# Altium integrated library ON Semi Logic Clock Clock Support.IntLib: 2 symbols
Pins are listed as number, name and electrical type; pins without a type are passive.

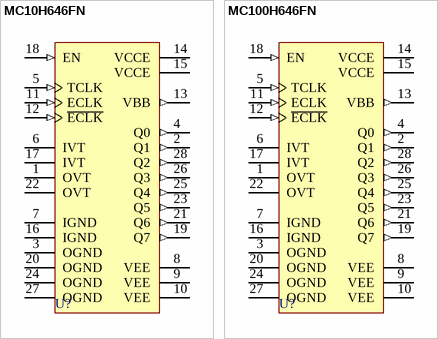
[diagram p0: symbols MC10H646FN to MC100H646FN]

## MC10H646FN
designator U?
PECL/TTL-TTL 1:8 Clock Distribution Chip; Published: 15-Apr-2002; LatestRevisionDate: 13-Apr-2006; LatestRevisionNote: IPC-7351 Footprint Added.; DatasheetVersion: 1996; PackageVersion: Feb-2000; PackageReference: 776-02; Publisher: Altium Limited; PackageDescription: 28-Pin Leaded Chip Carrier 1.27 mm Pitch; ComponentLink1Description: Manufacturer Link; ComponentLink1URL: http://www.onsemi.com/; ComponentLink2Description: Datasheet; ComponentLink2URL: http://www.onsemi.com/pub/Collateral/MC10H646-D.PDF
footprint 776-02_N (Leaded Chip Carrier, 28-Leads, Body 11.5x11.5mm, Pitch 1.27mm, IPC Medium Density)
footprint 776-02_L (Leaded Chip Carrier, 28-Leads, Body 11.5x11.5mm, Pitch 1.27mm, IPC High Density)
footprint 776-02_M (Leaded Chip Carrier, 28-Leads, Body 11.5x11.5mm, Pitch 1.27mm, IPC Low Density)
pins: 1 OVT (power), 2 Q1 (out), 3 OGND (power), 4 Q0 (out), 5 TCLK (in), 6 IVT (power), 7 IGND (power), 8 VEE (power), 9 VEE (power), 10 VEE (power), 11 ECLK (in), 12 ~{ECLK} (in), 13 VBB (out), 14 VCCE (power), 15 VCCE (power), 16 IGND (power), 17 IVT (power), 18 EN (in), 19 Q7 (out), 20 OGND (power), 21 Q6 (out), 22 OVT (power), 23 Q5 (out), 24 OGND (power), 25 Q4 (out), 26 Q3 (out), 27 OGND (power), 28 Q2 (out)

## MC100H646FN
designator U?
PECL/TTL-TTL 1:8 Clock Distribution Chip; Published: 15-Apr-2002; LatestRevisionDate: 13-Apr-2006; LatestRevisionNote: IPC-7351 Footprint Added.; DatasheetVersion: 1996; PackageVersion: Feb-2000; PackageReference: 776-02; Publisher: Altium Limited; PackageDescription: 28-Pin Leaded Chip Carrier 1.27 mm Pitch; ComponentLink1Description: Manufacturer Link; ComponentLink1URL: http://www.onsemi.com/; ComponentLink2Description: Datasheet; ComponentLink2URL: http://www.onsemi.com/pub/Collateral/MC10H646-D.PDF
footprint 776-02_N (Leaded Chip Carrier, 28-Leads, Body 11.5x11.5mm, Pitch 1.27mm, IPC Medium Density)
footprint 776-02_L (Leaded Chip Carrier, 28-Leads, Body 11.5x11.5mm, Pitch 1.27mm, IPC High Density)
footprint 776-02_M (Leaded Chip Carrier, 28-Leads, Body 11.5x11.5mm, Pitch 1.27mm, IPC Low Density)
pins: 1 OVT (power), 2 Q1 (out), 3 OGND (power), 4 Q0 (out), 5 TCLK (in), 6 IVT (power), 7 IGND (power), 8 VEE (power), 9 VEE (power), 10 VEE (power), 11 ECLK (in), 12 ~{ECLK} (in), 13 VBB (out), 14 VCCE (power), 15 VCCE (power), 16 IGND (power), 17 IVT (power), 18 EN (in), 19 Q7 (out), 20 OGND (power), 21 Q6 (out), 22 OVT (power), 23 Q5 (out), 24 OGND (power), 25 Q4 (out), 26 Q3 (out), 27 OGND (power), 28 Q2 (out)